# Altium integrated library W25Q16JVUXIQ_TR.IntLib: 1 symbol
Pins are listed as number, name and electrical type; pins without a type are passive.

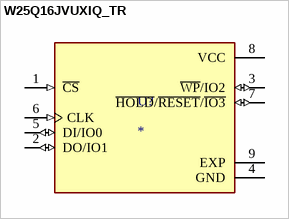
[diagram p0: symbol W25Q16JVUXIQ_TR]

## W25Q16JVUXIQ_TR
designator U?
NOR Flash Serial (SPI, Dual SPI, Quad SPI) 3V/3.3V 16M-bit 2M x 8 6ns 8-Pin USON EP T/R; MF: Winbond; MP: W25Q16JVUXIQ TR; Purchase-URL: https://pricing.snapeda.com/search/part/W25Q16JVUXIQ TR/?ref=eda; Value: *; SnapEDA_Link: https://www.snapeda.com/parts/W25Q16JVUXIQ%20TR/Winbond/view-part/?ref=snap; Package: UFDFN-8 Winbond; Check_prices: https://www.snapeda.com/parts/W25Q16JVUXIQ%20TR/Winbond/view-part/?ref=eda; Price: None; Availability: In Stock
footprint IC_W25Q16JVUXIQ_TR
pins: 1 ~{CS} (in), 2 DO/IO1 (io), 3 ~{WP}/IO2 (io), 4 GND (power), 5 DI/IO0 (io), 6 CLK (in), 7 ~{HOLD}/~{RESET}/~{IO3} (io), 8 VCC (power), 9 EXP